# EAGLE library part OPAMP_2_CHANNEL_* (library HyTechDevices)
Op-Amp 2 Channel OPA2991 Datasheet <https://www.ti.com/lit/ds/symlink/opa2991.pdf?HQS=dis-mous-null-mousermode-dsf-pf-null-wwe&ts=1697521669896&ref_url=https%253A%252F%252Fwww.mouser.com%252F> Note: OPA2991 is also a comparator
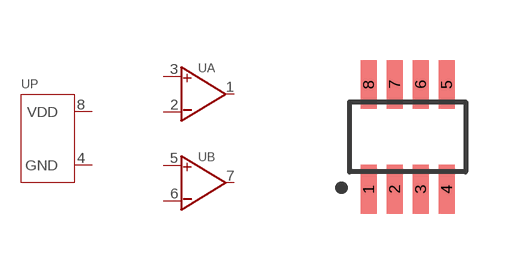
[diagram p79: symbol with the pads of SOT-23-8; footprint SOT-23-8]

Designator prefix U; gates A=OPAMP P=PWR_GND B=OPAMP

## OPAMP_2_CHANNEL_OPA_2991 (DKPN: 296-OPA2991IDDFRCT-ND; MANUFACTURER: Texas Instruments; MOPN: 595-OPA2991IDDFR; MPN: OPA2991IDDFR)  [SOT-23-8]
1  A:VOUT  out
2  A:VIN-  in
3  A:VIN+  in
4  P:GND  pwr
5  B:VIN+  in
6  B:VIN-  in
7  B:VOUT  out
8  P:VDD  pwr

## Footprint SOT-23-8 (pad centres in mm)
SOT-23-8 Datasheet <https://www.analog.com/media/en/package-pcb-resources/package/pkg_pdf/ltc-legacy-sot-23/SOT_8_05-08-1637.pdf>
smd 0.4 x 1.22: 1 -0.975,-1.31; 2 -0.325,-1.31; 3 0.325,-1.31; 4 0.975,-1.31; 5 0.975,1.31; 6 0.325,1.31; 7 -0.325,1.31; 8 -0.975,1.31